# EAGLE library part MT3608 (library MT3608)
High Efficiency 1.2MHz 2A Step Up Converter Source: Datasheet <https://www.olimex.com/Products/Breadboarding/BB-PWR-3608/resources/MT3608.pdf>
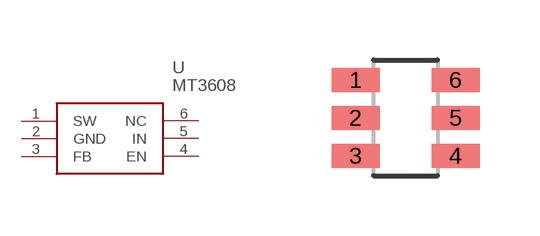
[diagram p0: symbol with the pads of SOT95P280X145-6N; footprint SOT95P280X145-6N]

Designator prefix U

## MT3608 (ARROW_PART_NUMBER: MT3608; DESCRIPTION: High Efficiency 1.2MHz 2A Step Up Converter; HEIGHT: 1.45mm; MANUFACTURER_NAME: Aerosemi; MANUFACTURER_PART_NUMBER: MT3608)  [SOT95P280X145-6N]
1  SW
2  GND
3  FB
4  EN
5  IN
6  NC  nc

## Footprint SOT95P280X145-6N (pad centres in mm)
TSOT23-6/SOT23-6
smd 1.2 x 0.6: 1 -1.25,0.95; 2 -1.25,0; 3 -1.25,-0.95; 4 1.25,-0.95; 5 1.25,0; 6 1.25,0.95